# Altium schematic symbol library ZED-F9P.SchLib: 1 symbol
Pins are listed as number, name and electrical type; pins without a type are passive.

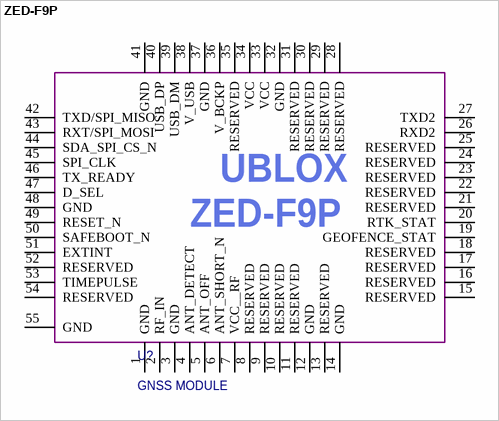
[diagram p0: symbol ZED-F9P]

## ZED-F9P
designator U?, comment GNSS MODULE
pins: 1 GND, 2 RF_IN, 3 GND, 4 ANT_DETECT, 5 ANT_OFF, 6 ANT_SHORT_N, 7 VCC__RF, 8 RESERVED, 9 RESERVED, 10 RESERVED, 11 RESERVED, 12 GND, 13 RESERVED, 14 GND, 15 RESERVED, 16 RESERVED, 17 RESERVED, 18 RESERVED, 19 GEOFENCE_STAT, 20 RTK_STAT, 21 RESERVED, 22 RESERVED, 23 RESERVED, 24 RESERVED, 25 RESERVED, 26 RXD2, 27 TXD2, 28 RESERVED, 29 RESERVED, 30 RESERVED, 31 RESERVED, 32 GND, 33 VCC, 34 VCC, 35 RESERVED, 36 V_BCKP, 37 GND, 38 V_USB, 39 USB_DM, 40 USB_DP, 41 GND, 42 TXD/SPI_MISO, 43 RXT/SPI_MOSI, 44 SDA_SPI_CS_N, 45 SPI_CLK, 46 TX_READY, 47 D_SEL, 48 GND, 49 RESET_N, 50 SAFEBOOT_N, 51 EXTINT, 52 RESERVED, 53 TIMEPULSE, 54 RESERVED, 55 GND
text: UBLOX